# Altium footprint library CH572D-R0-1v2.PcbLib: 13 footprints
Each footprint in its own frame and in the unit in brackets; x right, y up, seen from the top. Pads: shape width x height; smd on the part's side, far side on the other; paste and mask are expansions set on the pad; w line width, h text height; cw(c..) or ccw(c..) is an arc to the next point about the centre after c.
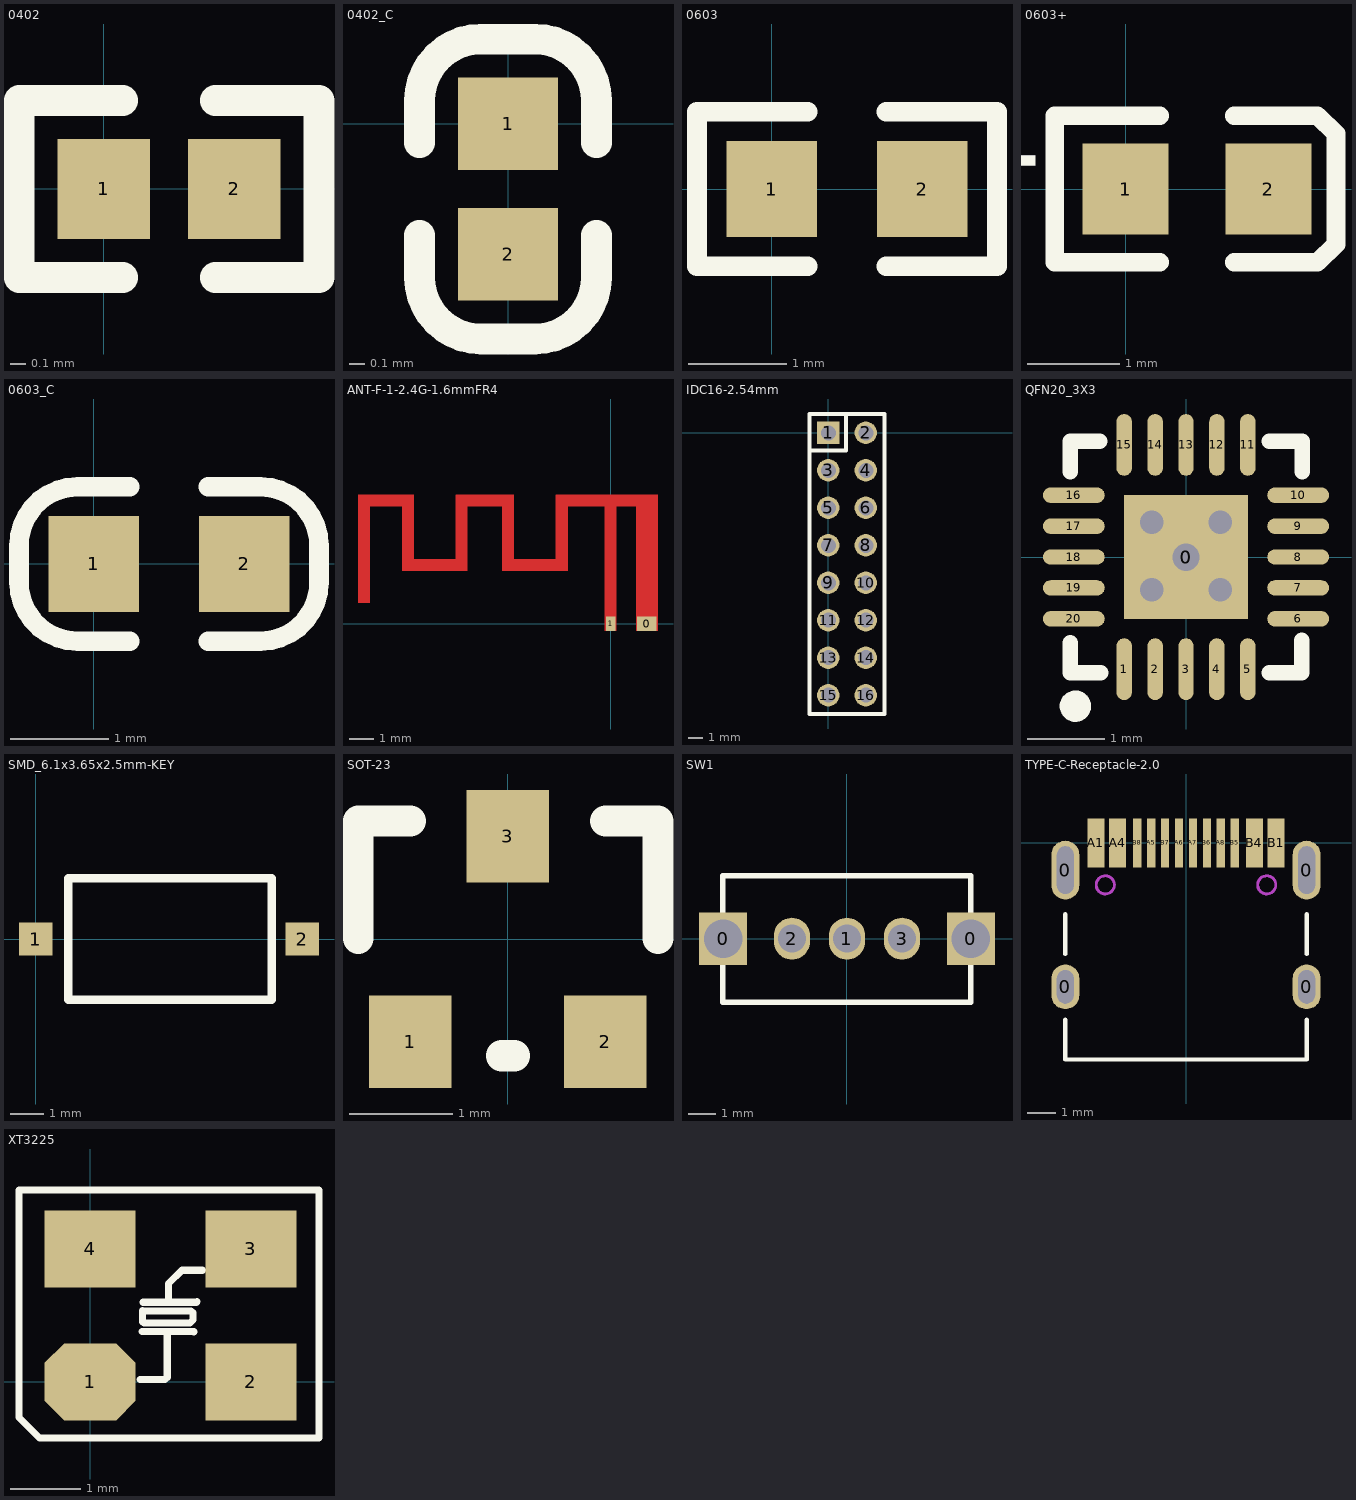
[diagram p0: the footprints below, top view; thin cyan lines are the x and y axes]

## 0402 [mm]
height 9.7
pads (2):
  rect 0.6x0.65 smd mask+0.051: 1(0,0) 2(0.85,0)
Top Overlay:
  lines w0.2: 0.125,-0.575 -0.55,-0.575 -0.55,0.575 0.125,0.575 ; 0.725,-0.575 1.4,-0.575 1.4,0.575 0.725,0.575

## 0402_C [mm]
height 9.7
pads (2):
  rect 0.65x0.6 smd mask+0.051: 1(0,0) 2(0,-0.85)
Top Overlay:
  lines w0.2: -0.575,-0.725 -0.575,-1 ccw(c-0.175,-1) -0.175,-1.4 0.175,-1.4 ccw(c0.175,-1) 0.575,-1 0.575,-0.725 ; -0.575,-0.125 -0.575,0.15 cw(c-0.175,0.15) -0.175,0.55 0.175,0.55 cw(c0.175,0.15) 0.575,0.15 0.575,-0.125

## 0603 [mm]
height 1.3
pads (2):
  rect 0.93x0.98 smd: 1(0,0) 2(1.54,0)
Top Overlay:
  lines w0.2: 0.37,-0.79 -0.765,-0.79 -0.765,0.79 0.37,0.79 ; 1.17,-0.79 2.305,-0.79 2.305,0.79 1.17,0.79

## 0603+ [mm]
height 1.3
pads (2):
  rect 0.93x0.98 smd: 1(0,0) 2(1.54,0)
Top Overlay:
  lines w0.2: 0.37,-0.79 -0.765,-0.79 -0.765,0.79 0.37,0.79 ; 1.17,-0.79 2.07,-0.79 2.27,-0.597 2.27,0.597 2.07,0.79 1.17,0.79
  text "+" at -0.967,-0.279 h1.02

## 0603_C [mm]
height 1.3
pads (2):
  rect 0.93x0.98 smd mask+0.051: 1(0,0) 2(1.54,0)
Top Overlay:
  lines w0.2: 0.37,-0.79 -0.165,-0.79 cw(c-0.165,-0.19) -0.765,-0.19 -0.765,0.19 cw(c-0.165,0.19) -0.165,0.79 0.37,0.79 ; 1.17,-0.79 1.705,-0.79 ccw(c1.705,-0.19) 2.305,-0.19 2.305,0.19 ccw(c1.705,0.19) 1.705,0.79 1.17,0.79

## ANT-F-1-2.4G-1.6mmFR4 [mm]
height 1.3
pads (2):
  rect 0.8x0.6 smd mask+0: 0(1.483,0)
  rect 0.4x0.6 smd mask+0: 1(0,0)
Top Layer:
  region: -9.86,4.976 -10.36,4.976 -10.36,0.856 -9.86,0.856
  region: -8.06,5.296 -10.36,5.296 -10.36,4.796 -8.06,4.796
  region: -8.061,4.977 -8.561,4.977 -8.561,2.157 -8.061,2.157
  region: -5.875,2.657 -8.364,2.657 -8.364,2.157 -5.875,2.157
  region: -5.861,4.977 -6.361,4.977 -6.361,2.157 -5.861,2.157
  region: -3.96,5.296 -6.36,5.296 -6.36,4.796 -3.96,4.796
  region: -3.96,4.976 -4.46,4.976 -4.46,2.156 -3.96,2.156
  region: -1.85,2.651 -4.39,2.651 -4.39,2.156 -1.85,2.156
  region: -1.76,4.977 -2.26,4.977 -2.26,2.157 -1.76,2.157
  region: 1.94,5.296 -2.26,5.296 -2.26,4.796 1.94,4.796
  region: 1.94,5.002 1.04,5.002 1.04,-0.304 1.94,-0.304
  region: 0.24,5.027 -0.26,5.027 -0.26,-0.304 0.24,-0.304
Top Solder:
  region: 0.24,5.027 -0.26,5.027 -0.26,-0.304 0.24,-0.304
  region: 1.94,5.002 1.04,5.002 1.04,-0.304 1.94,-0.304
  region: 1.94,5.296 -2.26,5.296 -2.26,4.796 1.94,4.796
  region: -1.76,4.977 -2.26,4.977 -2.26,2.157 -1.76,2.157
  region: -1.85,2.651 -4.39,2.651 -4.39,2.156 -1.85,2.156
  region: -3.96,4.976 -4.46,4.976 -4.46,2.156 -3.96,2.156
  region: -3.96,5.296 -6.36,5.296 -6.36,4.796 -3.96,4.796
  region: -5.861,4.977 -6.361,4.977 -6.361,2.157 -5.861,2.157
  region: -5.875,2.657 -8.364,2.657 -8.364,2.157 -5.875,2.157
  region: -8.061,4.977 -8.561,4.977 -8.561,2.157 -8.061,2.157
  region: -8.06,5.296 -10.36,5.296 -10.36,4.796 -8.06,4.796
  region: -9.86,4.976 -10.36,4.976 -10.36,0.856 -9.86,0.856

## IDC16-2.54mm [mil]
height 51.18
pads (16):
  rect 60x60 hole 40: 1(0,0)
  round 60 hole 40: 2(100,0) 3(0,-100) 4(100,-100) 5(0,-200) 6(100,-200) 7(0,-300) 8(100,-300) 9(0,-400) 10(100,-400) 11(0,-500) 12(100,-500) 13(0,-600) 14(100,-600) 15(0,-700) 16(100,-700)
Top Overlay:
  lines w10: -50,-47 47,-47 47,49 ; -50,49 -50,-750 150,-750 150,49 ; -50,50 150,50

## QFN20_3X3 [mm]
height 1.3
pads (22):
  rect 1.6x1.6 smd mask+0.051: 0(0,0)
  round 0.508 hole 0.356: 0(0,0)
  oval 0.2x0.8 smd mask+0.051: 1(-0.8,-1.451) 2(-0.4,-1.451) 3(0,-1.451) 4(0.4,-1.451) 5(0.8,-1.451) 11(0.8,1.451) 12(0.4,1.451) 13(0,1.451) 14(-0.4,1.451) 15(-0.8,1.451)
  oval 0.8x0.2 smd mask+0.051: 6(1.451,-0.8) 7(1.451,-0.4) 8(1.451,0) 9(1.451,0.4) 10(1.451,0.8) 16(-1.451,0.8) 17(-1.451,0.4) 18(-1.451,0) 19(-1.451,-0.4) 20(-1.451,-0.8)
via 0.442,-0.422 diameter 0.508 hole 0.305
via -0.442,0.449 diameter 0.508 hole 0.305
via -0.442,-0.422 diameter 0.508 hole 0.305
via 0.442,0.449 diameter 0.508 hole 0.305
Top Overlay:
  circle w0.203: c-1.431,-1.93 r0.102
  lines w0.203: -1.497,-1.108 -1.497,-1.5 -1.105,-1.5 ; -1.497,1.105 -1.497,1.5 -1.118,1.5 ; 1.079,-1.5 1.5,-1.5 1.5,-1.08 ; 1.082,1.5 1.503,1.5 1.503,1.108

## SMD_6.1x3.65x2.5mm-KEY [mm]
height 1.3
pads (2):
  rect 1x1 smd: 1(0,0) 2(8,0)
Top Overlay:
  lines w0.254: 0.976,-1.825 7.076,-1.825 7.076,1.825 0.976,1.825 0.976,-1.825

## SOT-23 [mm]
height 1.3
pads (3):
  rect 0.8x0.9 smd: 1(-0.95,-1) 2(0.95,-1) 3(0,1)
Top Overlay:
  lines w0.305: -1.458,0.006 -1.458,1.149 -0.95,1.149 ; -0.061,-1.137 0.066,-1.137 ; 0.955,1.149 1.463,1.149 1.463,0.006

## SW1 [mm]
height 1.3
pads (5):
  rect 1.75x1.9 hole 1.4: 0(-4.5,0) 0(4.5,0)
  oval 1.321x1.524 hole 1.016: 1(0,0) 2(-2,0) 3(2,0)
Top Overlay:
  lines w0.203: -4.508,-2.311 -4.508,2.289 ; -4.5,-2.311 4.5,-2.311 4.5,2.289 -4.5,2.289

## TYPE-C-Receptacle-2.0 [mm]
height 1.3
pads (16):
  oval 1x1.6 hole 0.6 slot 1.2 at 90 deg: 0(-4.32,-5.15) 0(4.32,-5.15)
  oval 1x2.1 hole 0.6 slot 1.7 at 90 deg: 0(-4.32,-0.97) 0(4.32,-0.97)
  rect 0.6x1.75 smd mask+0.051: A1(-3.225,0) A4(-2.45,0) B1(3.225,0) B4(2.45,0)
  rect 0.3x1.75 smd mask+0.051: A5(-1.25,0) A6(-0.25,0) A7(0.25,0) A8(1.25,0) B5(1.75,0) B6(0.75,0) B7(-0.75,0) B8(-1.75,0)
Top Overlay:
  lines w0.152: -4.32,-6.325 -4.32,-7.75 4.32,-7.75 4.32,-6.325 ; -4.32,-3.975 -4.32,-2.55 ; 4.32,-3.975 4.32,-2.55
Keep-Out Layer:
  circle w0.1: c-2.89,-1.5 r0.325
  circle w0.1: c2.89,-1.5 r0.325
Mechanical 1:
  circle w0.102: c-2.89,-1.5 r0.325
  circle w0.102: c2.89,-1.5 r0.325

## XT3225 [mm]
height 1.3
pads (4):
  oct 1.3x1.1 smd: 1(0,0)
  rect 1.3x1.1 smd: 2(2.3,0) 3(2.3,1.9) 4(0,1.9)
Top Overlay:
  lines w0.102: 0.713,0.033 1.073,0.033 1.104,0.064 1.104,0.66 ; 0.744,0.722 1.476,0.722 1.482,0.716 ; 0.75,1.013 1.445,1.013 1.47,0.988 1.47,0.883 1.426,0.84 0.769,0.84 0.75,0.858 0.75,1.019 ; 0.757,1.137 1.519,1.137 1.532,1.15 ; 1.122,1.205 1.122,1.404 1.315,1.596 1.606,1.596 ; -1.017,-0.512 -0.725,-0.804 3.274,-0.804 3.274,2.743 -1.017,2.743 -1.017,-0.512